# Altium schematic symbol library Button GOST.SchLib: 8 symbols
Pins are listed as number, name and electrical type; pins without a type are passive.

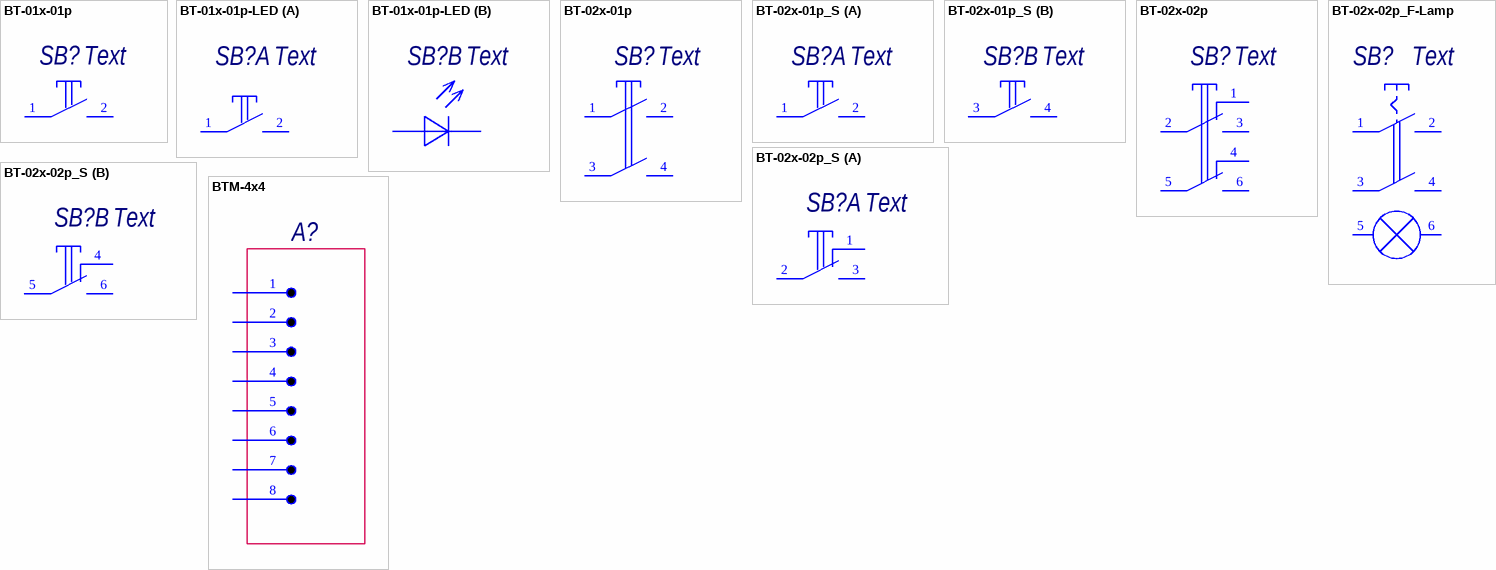
[diagram p0: symbols BT-01x-01p to BTM-4x4]

## BT-01x-01p
designator SB?, comment Text
Published: 17.04.2014; Publisher: Andrew Danich; Type: Переключатель
pins: 1, 2

## BT-01x-01p-LED
designator SB?, comment Text
Published: 17.04.2014; Publisher: Andrew Danich; Type: Переключатель
part A pins: 1, 2
part B pins: A "Анод", K "Катод"

## BT-02x-01p
designator SB?, comment Text
Published: 17.04.2014; Publisher: Andrew Danich; Type: Переключатель
pins: 1, 2, 3, 4

## BT-02x-01p_S
designator SB?, comment Text
Published: 17.04.2014; Publisher: Andrew Danich; Type: Переключатель
part A pins: 1, 2
part B pins: 3, 4

## BT-02x-02p
designator SB?, comment Text
Published: 17.04.2014; Publisher: Andrew Danich; Type: Переключатель
pins: 1, 2, 3, 4, 5, 6

## BT-02x-02p_F-Lamp
designator SB?, comment Text
Published: 09.06.2015; Publisher: Andrew Danich; Type: Переключатель
pins: 1, 2, 3, 4, 5 "Анод", 6 "Катод"

## BT-02x-02p_S
designator SB?, comment Text
Published: 17.04.2014; Publisher: Andrew Danich; Type: Переключатель
part A pins: 1, 2, 3
part B pins: 4, 5, 6

## BTM-4x4
designator A?
Published: 27.08.2014; Publisher: Andrew Danich; Type: Клавиатура кнопочная
pins: 1, 2, 3, 4, 5, 6, 7, 8